# EAGLE library part PLS-12 (library gost_con_pls-pld-pbs-pbd)
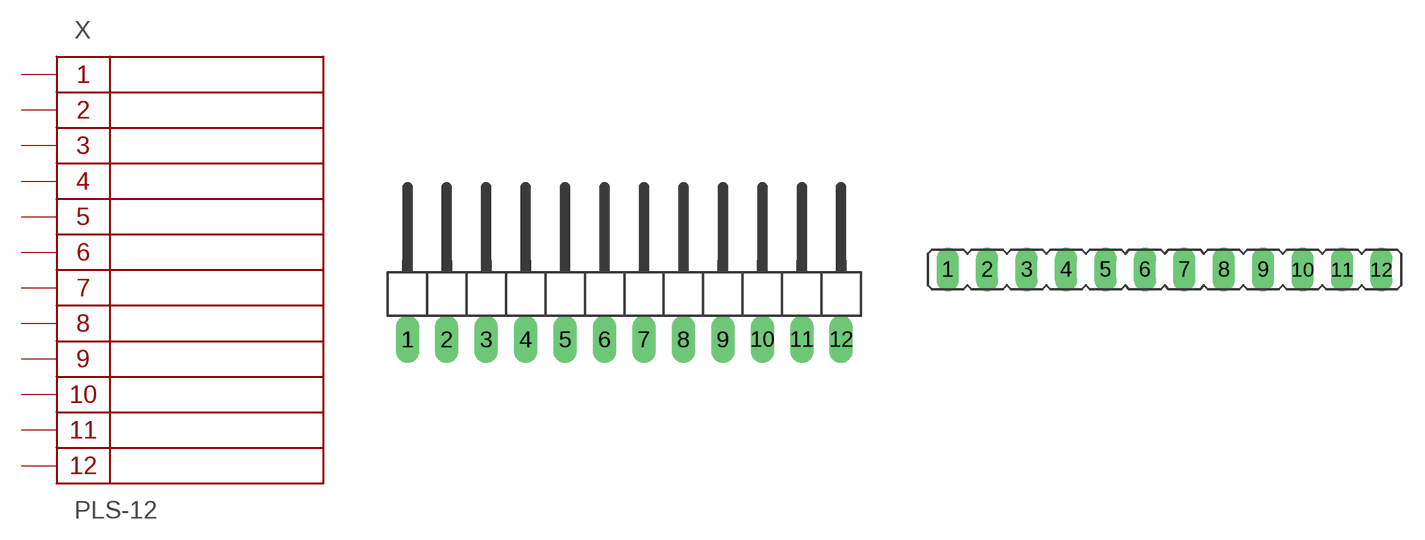
[diagram p6: symbol with the pads of PLS-12R; footprints PLS-12R, PLS-12]

Designator prefix X

## PLS-12R  [PLS-12R]
1  1
2  2
3  3
4  4
5  5
6  6
7  7
8  8
9  9
10  10
11  11
12  12

## PLS-12  [PLS-12]
Pads as for PLS-12R

## Footprint PLS-12R (pad centres in mm)
drill 1.016 long: 1 -6.35,0; 2 -3.81,0; 3 -1.27,0; 4 1.27,0; 5 3.81,0; 6 6.35,0; 7 8.89,0; 8 11.43,0; 9 13.97,0; 10 16.51,0; 11 19.05,0; 12 21.59,0

## Footprint PLS-12 (pad centres in mm)
drill 0.914 long: 1 -2.54,0; 2 0,0; 3 2.54,0; 4 5.08,0; 5 7.62,0; 6 10.16,0; 7 12.7,0; 8 15.24,0; 9 17.78,0; 10 20.32,0; 11 22.86,0; 12 25.4,0